# EAGLE library part HDR2X3 (library CameraTags)
HDR 2x3 Male Header
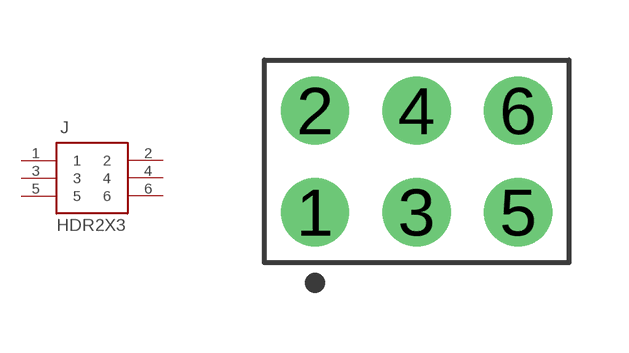
[diagram p9: symbol with the pads of HDR2X3; footprint HDR2X3]

Designator prefix J

## HDR2X3HDR2X3  [HDR2X3]
1  1  in
2  2  pwr
3  3  out
4  4  out
5  5  out
6  6  pwr

## Footprint HDR2X3 (pad centres in mm)
Double-row, 6-pin Pin Header (Male) Straight, 2.54 mm (0.10 in) row pitch, 2.54 mm (0.10 in) col pitch, 5.84 mm mating length, 10.16 X 5.08 X 8.38 mm body Double-row (2X3), 6-pin Pin Header (Male) Straight package with 2.54 mm (0.10 in) row pitch, 2.54 mm (0.10 in) col pitch, 0.64 mm lead width, 3.00 mm tail length and 5.84 mm mating length with overall size 10.16 X 5.08 X 8.38 mm, pin pattern - zigzag from bottom left
drill 1.105 pad 1.705: 1 0,0; 2 0,2.54; 3 2.54,0; 4 2.54,2.54; 5 5.08,0; 6 5.08,2.54